# Altium schematic symbol library TPD12S016.SchLib: 1 symbol
Pins are listed as number, name and electrical type; pins without a type are passive.

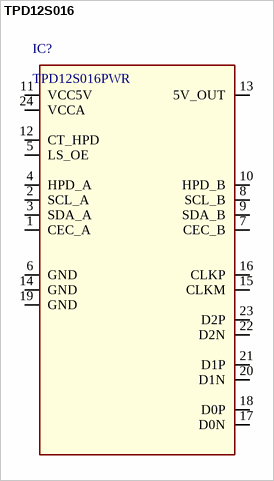
[diagram p0: symbol TPD12S016]

## TPD12S016
designator IC?, comment TPD12S016PWR
PDF: http://www.ti.com/lit/ds/symlink/tpd12s016.pdf; BUY_LINK: http://www.digikey.com/product-detail/en/TPD12S016PWR/296-29690-1-ND/2762248; PRICE: 1.87000; ID: TPD12S016PWR
footprint TSSOP24 (Shrink Small Outline; 24 Leads; Body Width 4.4 mm; Pitch 0.65 mm)
pins: 1 CEC_A, 2 SCL_A, 3 SDA_A, 4 HPD_A, 5 LS_OE, 6 GND, 7 CEC_B, 8 SCL_B, 9 SDA_B, 10 HPD_B, 11 VCC5V, 12 CT_HPD, 13 5V_OUT, 14 GND, 15 CLKM, 16 CLKP, 17 D0N, 18 D0P, 19 GND, 20 D1N, 21 D1P, 22 D2N, 23 D2P, 24 VCCA